# Altium integrated library 1N4148W.IntLib: 1 symbol
Pins are listed as number, name and electrical type; pins without a type are passive.

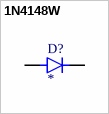
[diagram p0: symbol 1N4148W]

## 1N4148W
designator D?
Small Signal Diode, SOD-123F, 100V, 0.15A, 150Â°C; MF: Diotec Semiconductor; MP: 1N4148W; SnapEDA_Link: https://www.snapeda.com/parts/1N4148W/Diotec/view-part/?ref=snap; Package: SOD-123F Diotec; Value: *; Check_prices: https://www.snapeda.com/parts/1N4148W/Diotec/view-part/?ref=eda
footprint SODFL3816X120N
pins: A, C K